# Altium footprint library 2020-07-15_01-39-57.PcbLib: 1 footprints
Each footprint in its own frame and in the unit in brackets; x right, y up, seen from the top. Pads: shape width x height; smd on the part's side, far side on the other; paste and mask are expansions set on the pad; w line width, h text height; cw(c..) or ccw(c..) is an arc to the next point about the centre after c.
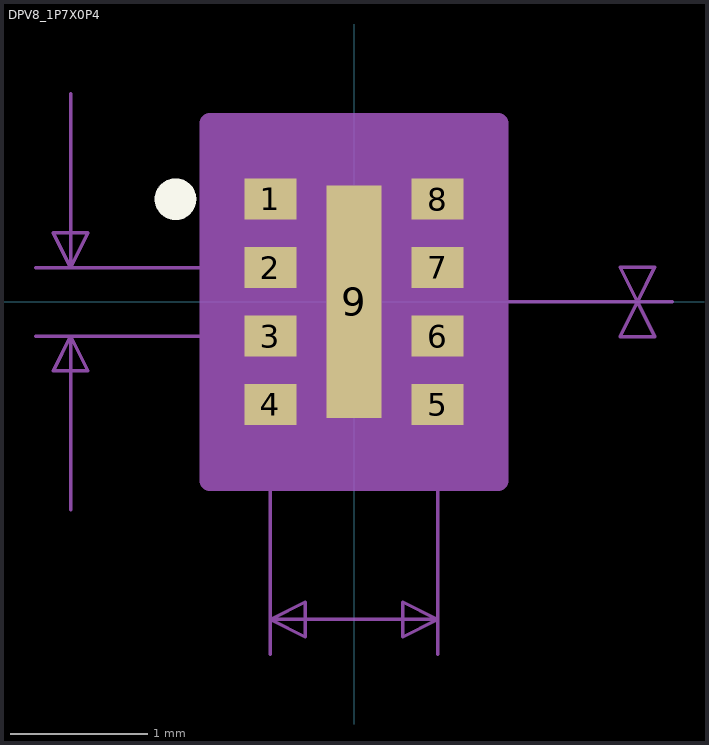
[diagram p0: the footprint, top view; thin cyan lines are the x and y axes]

## DPV8_1P7X0P4 [mm]
pads (9):
  rect 0.38x0.3 smd paste+0 mask+0: 1(-0.61,0.75) 2(-0.61,0.25) 3(-0.61,-0.25) 4(-0.61,-0.75) 5(0.61,-0.75) 6(0.61,-0.25) 7(0.61,0.25) 8(0.61,0.75)
  rect 0.4x1.7 smd paste+0 mask+0: 9(0,0)
Top Overlay:
  circle w0.152: c-1.304,0.75 r0.076
Mechanical 5:
  region: -0.571,1.181 0.571,1.181 0.571,-1.181 -0.571,-1.181
Mechanical 7:
  lines w0.025: -2.324,-0.25 -1.054,-0.25 ; -2.324,0.25 -1.054,0.25 ; -2.07,-1.52 -2.07,-0.25 ; -2.07,1.52 -2.07,0.25 ; -0.61,-2.574 -0.61,-1.154 ; 0.61,-2.574 0.61,-1.154 ; -2.07,-0.25 -1.943,-0.504 -2.197,-0.504 -2.07,-0.25 ; -2.07,0.25 -1.943,0.504 -2.197,0.504 -2.07,0.25 ; -0.61,-2.32 0.61,-2.32 ; -0.61,-2.32 -0.356,-2.447 -0.356,-2.193 -0.61,-2.32 ; 0.61,-2.32 0.356,-2.447 0.356,-2.193 0.61,-2.32 ; 2.07,0 2.07,0 ; 2.07,0 1.943,-0.254 2.197,-0.254 2.07,0 ; 2.07,0 1.943,0.254 2.197,0.254 2.07,0 ; 0.05,0 2.324,0 0.05,0
  text "Default Padstyle: r38_30" at -7.62,-7.654 h1.27
  text "Heat Tab Padstyle: r40_170" at -8.255,-9.178 h1.27
  text "Alt 1 Padstyle: b152_229h76" at -8.572,-12.226 h1.27
  text "Alt 2 Padstyle: b229_152h76" at -8.572,-13.75 h1.27
Mechanical 13:
  circle w0: c-0.674,0.75 r0.076
  lines w0.025: -0.8,-0.22 0.47,1.05 ; -0.8,-1.05 0.8,-1.05 0.8,1.05 -0.8,1.05 -0.8,-1.05
Mechanical 15:
  region: -0.154,-1.304 -1.054,-1.304 -1.054,-1.154 -1.054,1.154 -1.054,1.304 -0.154,1.304 0.154,1.304 1.054,1.304 1.054,1.154 1.054,1.258 1.054,-1.154 1.054,-1.304 0.154,-1.304
  lines w0.152: -1.054,-1.154 -1.054,-1.304 -0.154,-1.304 ; -1.054,-1.154 -1.054,-1.154 ; -1.054,-1.154 -1.054,1.154 ; -1.054,1.154 -1.054,1.154 ; -1.054,1.154 -1.054,1.304 -0.154,1.304 ; -0.154,-1.304 0.154,-1.304 ; -0.154,-1.304 -0.154,-1.304 ; -0.154,1.304 -0.154,1.304 ; -0.154,1.304 0.154,1.304 ; 0.154,-1.304 1.054,-1.304 1.054,-1.154 ; 0.154,-1.304 0.154,-1.304 ; 0.154,1.304 0.154,1.304 ; 0.154,1.304 1.054,1.304 1.054,1.154 ; 1.054,-1.154 1.054,1.154 ; 1.054,-1.154 1.054,-1.154 ; 1.054,1.154 1.054,1.154
3D body: height 0.25, standoff 0, extent 0,0 0.254,0.254